# EAGLE library part USB-C-CONNECOTR_USB4080-03-A (library It-s Time, Do)
USB-C (USB TYPE-C) USB 3.2 Gen 2 (USB 3.1 Gen 2, Superspeed + (USB 3.1)) Receptacle Connector 24 Position Surface Mount, Right Angle; Through Hole Check prices <https://pricing.snapeda.com/parts/USB4080-03-A/Global%20Connector%20Technology/view-part?ref=eda>
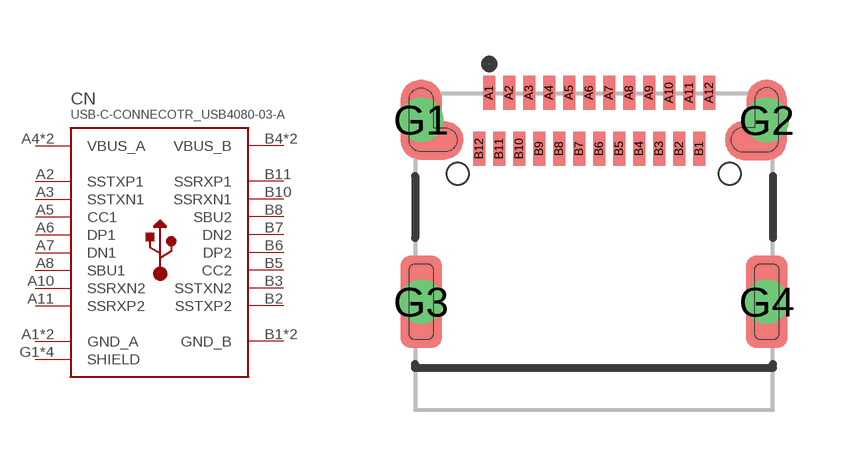
[diagram p0: symbol with the pads of USB-C-CONNECOTR_GCT_USB4080-03-A_REVA; footprint USB-C-CONNECOTR_GCT_USB4080-03-A_REVA]

Designator prefix CN

## USB-C-CONNECOTR_USB4080-03-A (AVAILABILITY: In Stock; DESCRIPTION: USB-C (USB TYPE-C) USB 3.2 Gen 2 (USB 3.1 Gen 2, Superspeed + (USB 3.1)) Receptacle Connector 24 Position Surface Mount, Right Angle; Through Hole; MF: Global Connector Technology; MP: USB4080-03-A; PACKAGE: None; PN: USB4080-03-A; PRICE: None; PURCHASE-URL: https://pricing.snapeda.com/search/part/USB4080-03-A/?ref=eda; VALUE: USB 3.2 Gen 2 Type C Receptacle)  [USB-C-CONNECOTR_GCT_USB4080-03-A_REVA]
A1  GND_A  pwr
A2  SSTXP1
A3  SSTXN1
A4  VBUS_A  pwr
A5  CC1
A6  DP1
A7  DN1
A8  SBU1
A9  VBUS_A  pwr
A10  SSRXN2
A11  SSRXP2
A12  GND_A  pwr
B1  GND_B  pwr
B2  SSTXP2
B3  SSTXN2
B4  VBUS_B  pwr
B5  CC2
B6  DP2
B7  DN2
B8  SBU2
B9  VBUS_B  pwr
B10  SSRXN1
B11  SSRXP1
B12  GND_B  pwr
G1  SHIELD  pas
G2  SHIELD  pas
G3  SHIELD  pas
G4  SHIELD  pas

## Footprint USB-C-CONNECOTR_GCT_USB4080-03-A_REVA (pad centres in mm)
smd 0.3 x 0.85: A1 -2.62,0.675; A2 -2.12,0.675; A3 -1.62,0.675; A4 -1.12,0.675; A5 -0.62,0.675; A6 -0.12,0.675; A7 0.38,0.675; A8 0.88,0.675; A9 1.38,0.675; A10 1.88,0.675; A11 2.38,0.675; A12 2.88,0.675; B1 2.63,-0.725; B2 2.13,-0.725; B3 1.63,-0.725; B4 1.13,-0.725; B5 0.63,-0.725; B6 0.13,-0.725; B7 -0.37,-0.725; B8 -0.87,-0.725; B9 -1.37,-0.725; B10 -1.87,-0.725; B11 -2.37,-0.725; B12 -2.87,-0.725
drill 0.6 pad 1: G1 -4.32,0; G2 4.32,-0.01; G3 -4.32,-4.55; G4 4.32,-4.55
hole 0.55 at -3.4,-1.35
hole 0.55 at 3.4,-1.35